# Altium schematic symbol library PMIC-CurrentManagement.SchLib: 1 symbol
Pins are listed as number, name and electrical type; pins without a type are passive.

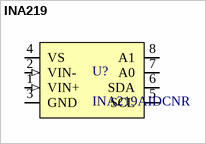
[diagram p0: symbol INA219]

## INA219
designator U?, comment INA219AIDCNR
IC CURRENT MONITOR 1% SOT23-8; Supplier 1: Digi-Key; Supplier Part Number 1: 296-23770-1-ND; Package / Case: SOT-23-8; Mounted: Yes; helpURL: https://www.ti.com/lit/ds/symlink/ina219.pdf?HQS=dis-dk-null-digikeymode-dsf-pf-null-wwe&ts=1696014906509&ref_url=https%253A%252F%252Fwww.ti.com%252Fgeneral%252Fdocs%252Fsuppproductinfo.tsp%253FdistId%253D10%2526gotoUrl%253Dhttps%253A%252F%252Fwww.ti.com%252Flit%252Fgpn%252Fina219
footprint SOT-23-8
pins: 1 VIN+ (in), 2 VIN- (in), 3 GND (power), 4 VS (power), 5 SCL, 6 SDA, 7 A0, 8 A1